# Altium footprint library PQFN50P400X400X60-25T290X290L.PcbLib: 1 footprints
Each footprint in its own frame and in the unit in brackets; x right, y up, seen from the top. Pads: shape width x height; smd on the part's side, far side on the other; paste and mask are expansions set on the pad; w line width, h text height; cw(c..) or ccw(c..) is an arc to the next point about the centre after c.
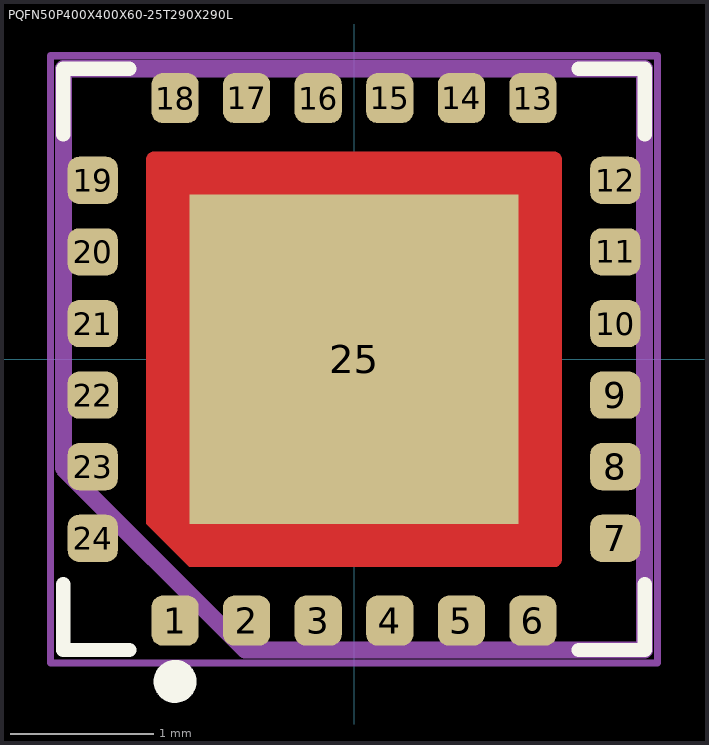
[diagram p0: the footprint, top view; thin cyan lines are the x and y axes]

## PQFN50P400X400X60-25T290X290L [mm] "Pullback Quad Flat No-Lead (PQFN with Tab), 0.50 mm pitch; square, 6 pin X 6 pin, 4.00 mm L X 4.00 mm W X 0.60 mm H body"
height 0.6
pads (25):
  rrect48% 0.33x0.35 smd: 1(-1.25,-1.825) 2(-0.75,-1.825) 3(-0.25,-1.825) 4(0.25,-1.825) 5(0.75,-1.825) 6(1.25,-1.825) 13(1.25,1.825) 14(0.75,1.825) 15(0.25,1.825) 16(-0.25,1.825) 17(-0.75,1.825) 18(-1.25,1.825)
  rrect48% 0.35x0.33 smd: 7(1.825,-1.25) 8(1.825,-0.75) 9(1.825,-0.25) 10(1.825,0.25) 11(1.825,0.75) 12(1.825,1.25) 19(-1.825,1.25) 20(-1.825,0.75) 21(-1.825,0.25) 22(-1.825,-0.25) 23(-1.825,-0.75) 24(-1.825,-1.25)
  rect 2.3x2.3 smd paste-2.3 mask+0: 25(0,0)
Top Layer:
  region: 1.45,0 1.45,-1.4 1.449,-1.408 1.448,-1.415 1.445,-1.423 1.441,-1.429 1.435,-1.435 1.429,-1.441 1.423,-1.445 1.415,-1.448 1.408,-1.449 -1.15,-1.45 -1.45,-1.15 -1.45,1.4 -1.449,1.408 -1.448,1.415 -1.445,1.423 -1.441,1.429 -1.435,1.435 -1.429,1.441 -1.423,1.445 -1.415,1.448 -1.408,1.449 1.4,1.45 1.408,1.449 1.415,1.448 1.423,1.445 1.429,1.441 1.435,1.435 1.441,1.429 1.445,1.423 1.448,1.415 1.449,1.408 1.45,1.4
Top Overlay:
  circle w0.15: c-1.25,-2.25 r0.075
  lines w0.1: -2.03,-1.57 -2.03,-2.03 -1.57,-2.03 ; -2.03,1.57 -2.03,2.03 -1.57,2.03 ; 1.57,-2.03 2.03,-2.03 2.03,-1.57 ; 1.57,2.03 2.03,2.03 2.03,1.57
Top Paste:
  region: 1.17,-1.17 0.14,-1.17 0.14,-0.14 1.17,-0.14
  region: 1.17,0.14 0.14,0.14 0.14,1.17 1.17,1.17
  region: -0.14,-1.17 -1.17,-1.17 -1.17,-0.14 -0.14,-0.14
  region: -0.14,0.14 -1.17,0.14 -1.17,1.17 -0.14,1.17
Top Solder:
  region: 1.45,0 1.45,-1.4 1.449,-1.408 1.448,-1.415 1.445,-1.423 1.441,-1.429 1.435,-1.435 1.429,-1.441 1.423,-1.445 1.415,-1.448 1.408,-1.449 -1.15,-1.45 -1.45,-1.15 -1.45,1.4 -1.449,1.408 -1.448,1.415 -1.445,1.423 -1.441,1.429 -1.435,1.435 -1.429,1.441 -1.423,1.445 -1.415,1.448 -1.408,1.449 1.4,1.45 1.408,1.449 1.415,1.448 1.423,1.445 1.429,1.441 1.435,1.435 1.441,1.429 1.445,1.423 1.448,1.415 1.449,1.408 1.45,1.4
Fab - Detail1, HDI1:
  lines w0.12: -2.03,-0.76 -0.76,-2.03 2.03,-2.03 2.03,2.03 -2.03,2.03 -2.03,-0.76
Courtyards/Models - Top:
  lines w0.05: -2.12,-2.12 -2.12,2.12 2.12,2.12 2.12,-2.12 -2.12,-2.12
3D body: height 0.9, standoff 0, extent -2.002,-2.002 2.002,2.002